# EAGLE library part HEADERHOLES_SAMTEC_TMS120 (library Traficon)
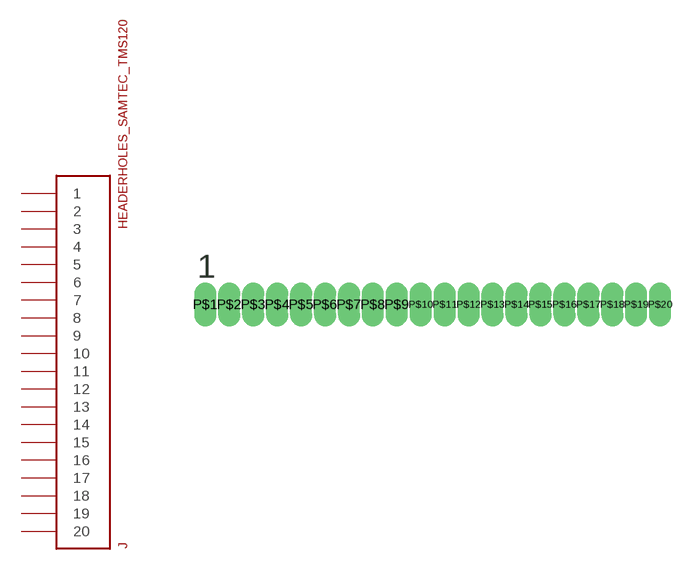
[diagram p170: symbol with the pads of SAMTEC-TMS-120; footprint SAMTEC-TMS-120]

Designator prefix J

## HEADERHOLES_SAMTEC_TMS120SA  [SAMTEC-TMS-120]
P$1  1
P$2  2
P$3  3
P$4  4
P$5  5
P$6  6
P$7  7
P$8  8
P$9  9
P$10  10
P$11  11
P$12  12
P$13  13
P$14  14
P$15  15
P$16  16
P$17  17
P$18  18
P$19  19
P$20  20

## Footprint SAMTEC-TMS-120 (pad centres in mm)
drill 0.66 pad 1.016 long: P$1 -12.065,0.25; P$2 -10.795,0.25; P$3 -9.525,0.25; P$4 -8.255,0.25; P$5 -6.985,0.25; P$6 -5.715,0.25; P$7 -4.445,0.25; P$8 -3.175,0.25; P$9 -1.905,0.25; P$10 -0.635,0.25; P$11 0.635,0.25; P$12 1.905,0.25; P$13 3.175,0.25; P$14 4.445,0.25; P$15 5.715,0.25; P$16 6.985,0.25; P$17 8.255,0.25; P$18 9.525,0.25; P$19 10.795,0.25; P$20 12.065,0.25